# Altium schematic symbol library Soardra.SchLib: 114 symbols
Pins are listed as number, name and electrical type; pins without a type are passive.

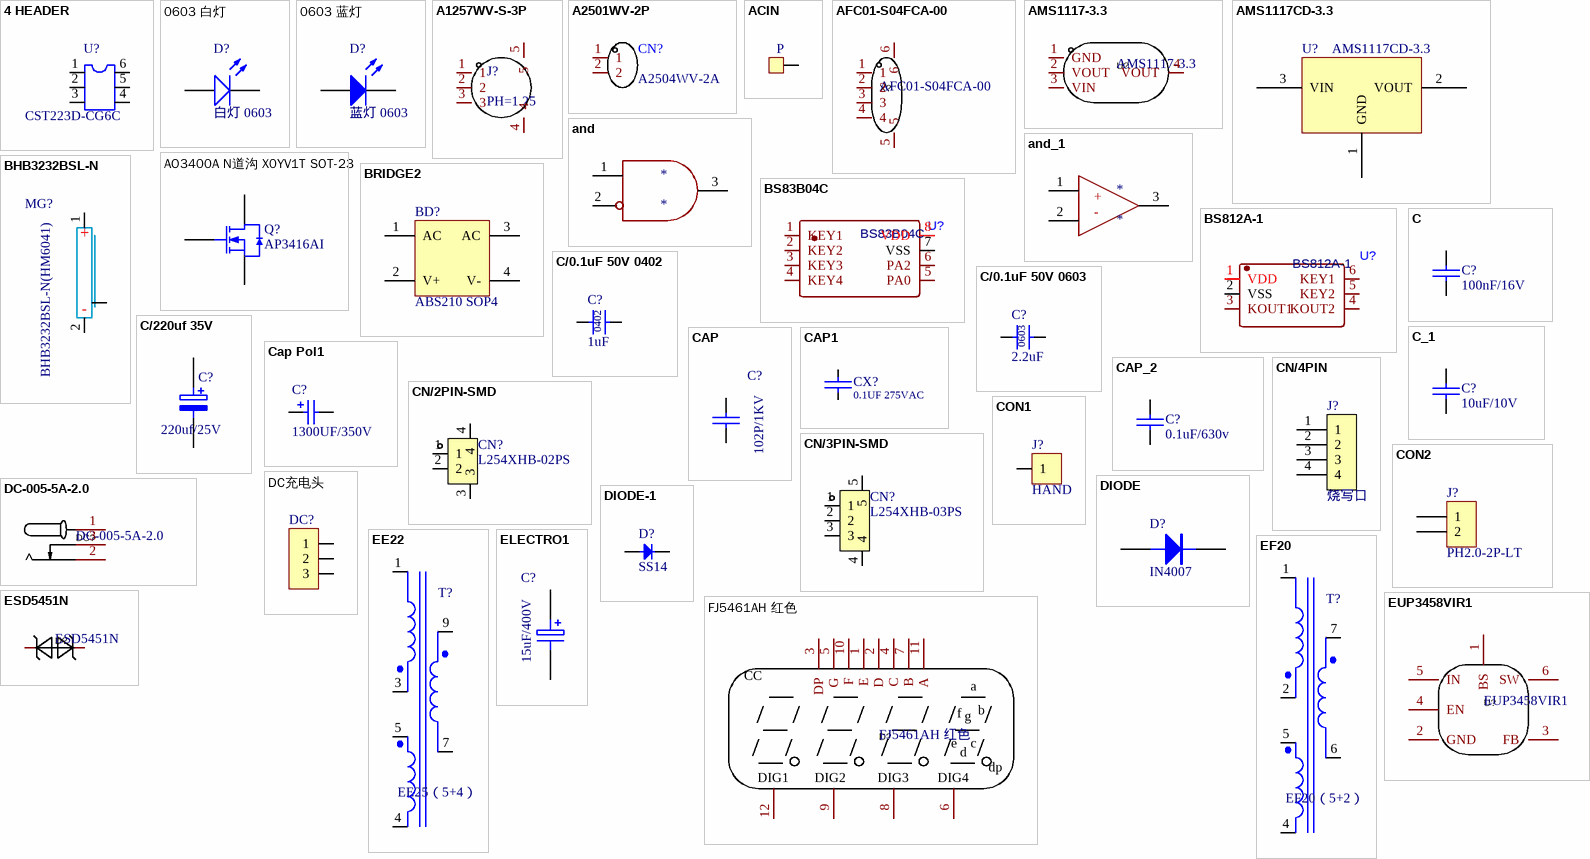
[diagram p0: symbols 4 HEADER to FJ5461AH 红色]

## 4 HEADER
designator U?, comment CST223D-CG6C
4 Pin Header
footprint SOT-23-6
pins: 1, 2, 3, 4, 5, 6

## 0603 白灯
designator D?, comment 白灯 0603
发光二极管; ComponentLink1Description: 供应商链接; ComponentLink1URL: http://www.szlcsc.com/product/details_2663.html; Package: 0603; Supplier: LC; SuppliersPartNumber: C2290
footprint 0603_LED_S1
pins: A, K

## 0603 蓝灯
designator D?, comment 蓝灯 0603
发光二极管; ComponentLink1Description: 供应商链接; ComponentLink1URL: http://www.szlcsc.com/product/details_73150.html; Package: 0603; Supplier: LC; SuppliersPartNumber: C72041
footprint 0603_LED_S1
pins: A, K

## A1257WV-S-3P
designator J?, comment PH=1.25
参考系列：GH 间距：1.25mm 插针结构：1x3P 排数：1 每排PIN数：3 触头材质：黄铜 镀锡 GH连接器 GH1.25
footprint SMD-3P-1.25
pins: 1, 2, 3, 4, 5

## A2501WV-2P
designator CN?, comment A2504WV-2A
Manufacturer: CJT(长江连接器); Name: A2501WV-2P; Add into BOM: yes; Reference Series: XH; Pitch: 2.5mm; Pins Structure: 1x2P; Number of PINs Per Row: 2; Symbol: A2501WV-2P; Device: A2501WV-2P; LCSC Part Name: XH 2.5mm 1x2P; Supplier Part: C225388; Manufacturer Part: A2501WV-2P; Supplier Footprint: 插件,P=2.5mm; JLCPCB Part Class: Extended Part; Datasheet: https://atta.szlcsc.com/upload/public/pdf/source/20190911/C273207_AE7733CA28D6B2C9AC656CEED013742F.pdf; Supplier: LCSC; Convert to PCB: yes; Number of Rows: 1; Row Spacing: -; Mounting Style: -; Contact Material: 黄铜
footprint CONN-TH_A2501WV-2P
3D model CONN-TH_A2501WV-2P
pins: 1, 2

## ACIN
designator P, comment point  (value not drawn)
pins: 0

## AFC01-S04FCA-00
designator X?
Manufacturer: JS(钜硕电子); Add into BOM: yes; Pitch: 0.5mm; Number of Contacts: 4; Locking Feature: 翻盖式; FFC, FCB Thickness: 0.3mm~0.3mm; Name: AFC01-S04FCA-00; Symbol: AFC01-S04FCA-00; Device: AFC01-S04FCA-00; LCSC Part Name: 0.5mm翻盖4P; Supplier Part: C262653; Manufacturer Part: AFC01-S04FCA-00; Supplier Footprint: SMD,P=0.5mm; JLCPCB Part Class: Extended Part; Supplier: LCSC; Convert to PCB: yes; Mounting Type: 卧贴; Contact Type: 下接; Height Above Board: 2mm; Operating Temperature Range: -
footprint FPC-SMD_AFC01-S04FCA-00
3D model FPC-SMD_AFC01-S04FCA-00
pins: 1, 2, 3, 4, 5, 6

## AMS1117-3.3
designator U?
Manufacturer: AMS; Device: AMS1117-3.3_C6186; Add into BOM: yes; Output Type: 固定; Output Polarity: 正; Number of Outputs: 1; Output Voltage: 3.3V; Dropout Voltage: 1.3V@(800mA); Output Current: 1A; Power Supply Rejection Ratio (PSRR): 72dB@(120Hz); Name: AMS1117-3.3; Symbol: AMS1117-3.3; LCSC Part Name: 正 Vout=3.3V 1A 72dB@(120Hz); Supplier Part: C6186; Manufacturer Part: AMS1117-3.3; Supplier Footprint: SOT-223-3; JLCPCB Part Class: Basic Part; Datasheet: https://atta.szlcsc.com/upload/public/pdf/source/20180727/C6186_7A095716F0823C02F1997A905E26C086.pdf; Supplier: LCSC; Convert to PCB: yes; Maximum Input Voltage: -; Quiescent Current (Ground Current): -; Noise: -; Feature: -; Operating Temperature: -
footprint SOT-223-3_L6.5-W3.4-P2.30-LS7.0-BR
3D model SOT-223-4P_L6.5-W3.5-H1.6-LS7.0-P2.30
pins: 1 GND, 2 VOUT, 3 VIN, 4 VOUT

## AMS1117CD-3.3
designator U?
LDO
footprint AMS1117CD-3.3 (LDO)
pins: 1 GND, 2 VOUT, 3 VIN

## and
designator *
pins: 1 VCC, 2 VCC, 3 VCC

## and_1
designator *
pins: 1 VCC, 2 VCC, 3 VCC
text: +; -

## AO3400A N道沟 X0YV1T SOT-23
designator Q?, comment AP3416AI
MOS(场效应管); ComponentLink1Description: 供应商链接; ComponentLink1URL: http://www.szlcsc.com/product/details_21629.html; Package: SOT-23; Supplier: LC; SuppliersPartNumber: C20917
footprint SOT-23-3L (http://www.aosmd.com/res/packaging_information/SOT-23-3L.pdf)
pins: 1 G, 2 S, 3 D

## BHB3232BSL-N
designator MG?, comment BHB3232BSL-N(HM6041)
(闪光放电灯）
footprint BHB3232BSL-N
pins: 1, 2
text: +; -

## BRIDGE2
designator BD?, comment ABS210 SOP4
Diode Bridge
footprint BRIDGE
footprint MBS-DB (Footprint not found)
pins: 1 AC, 2 V+, 3 AC, 4 V-

## BS83B04C
designator U?
footprint SOP-8 (MOS SOP-8)
pins: 1 KEY1, 2 KEY2, 3 KEY3, 4 KEY4, 5 PA0, 6 PA2, 7 VSS, 8 VDD

## BS812A-1
designator U?
footprint SOT-23-6_L2.9-W1.6-P0.95-LS2.8-BR
pins: 1 VDD, 2 VSS, 3 KOUT1, 4 KOUT2, 5 KEY2, 6 KEY1

## C
designator C?, comment 100nF/16V
贴片电容
footprint C5
footprint C7.5
footprint C10
footprint C12.5
footprint C0603
footprint 0603C
footprint 0402_C
footprint 0402C
pins: 1, 2
2 alternate drawings of the same symbol

## C/0.1uF 50V 0402
designator C?, comment 1uF
footprint 0402C
pins: 1, 2
2 alternate drawings of the same symbol
text: 0402

## C/0.1uF 50V 0603
designator C?, comment 2.2uF
footprint 0603C
pins: 1, 2
2 alternate drawings of the same symbol
text: 0603

## C/220uf 35V
designator C?, comment 220uf/25V
Electrolytic Capacitor
footprint EC8
footprint CAP-SMD-6.3*6.3
pins: 1, 2

## C_1
designator C?, comment 10uF/10V
Capacitor
footprint C5
footprint C7.5
footprint C10
footprint C12.5
footprint C0603
footprint 0603C
footprint 0603_C
pins: 1, 2
2 alternate drawings of the same symbol

## CAP
designator C?, comment 102P/1KV
Capacitor
footprint 1206H (Footprint not found)
footprint 0805H
pins: 1, 2

## CAP1
designator CX?, comment 0.1UF 275VAC
footprint CX-P7.5 (Footprint not found)
pins: 1, 2
2 alternate drawings of the same symbol

## Cap Pol1
designator C?, comment 1300UF/350V
Polarized Capacitor (Radial); Value: 100pF; Published: 8-Jun-2000; LatestRevisionDate: 17-Jul-2002; LatestRevisionNote: Re-released for DXP Platform.; PackageReference: RB7.6-15; Publisher: Altium Limited; PackageDescription: Polarized Capacitor (Radial); 2 Leads
simulation model CAP (Capacitor)
signal-integrity model Cap Pol
footprint CAP-28*60-H
pins: 1, 2
1 alternate drawing of the same symbol

## CAP_2
designator C?, comment 0.1uF/630v
Capacitor
footprint 0603-1
footprint CAP-7.5MM (CBB电容-7.5MM)
footprint 1812C
pins: 1, 2

## CN/2PIN-SMD
designator CN?, comment L254XHB-02PS
footprint CONN-SMD_2P-P2.50_DELON_L254XHB-02PS
pins: 1, 2, 3, 4

## CN/3PIN-SMD
designator CN?, comment L254XHB-03PS
footprint CON3-1.25-SMD
footprint CON3-2.50-SMD
pins: 1, 2, 3, 4, 5

## CN/4PIN
designator J?, comment 烧写口
footprint SIP4-2.54
footprint CON4-2.54
footprint SIP4-1.27
pins: 1, 2, 3, 4
2 alternate drawings of the same symbol

## CON1
designator J?, comment HAND
Connector
footprint JPAD-2MM-Y
pins: 1

## CON2
designator J?, comment PH2.0-2P-LT
Connector
footprint CON2-PH2.0-2PIN
pins: 1, 2

## DC-005-5A-2.0
designator DC?
Manufacturer: XKB Connectivity(中国星坤); Add into BOM: yes; Connector Type: DC电源插座; Inside Contact Diameter: 2mm; Outside Contact Diameter: 6.2mm; Current Rating (Max): 5A; Voltage Rating (Max): 24V; Welding Temperature (Max): 260℃; Name: DC-005-5A-2.0; Symbol: DC-005-5A-2.0; Device: DC-005-5A-2.0; LCSC Part Name: DC电源插座 内径:2mm 外径:6.2mm; Supplier Part: C381116; Manufacturer Part: DC-005-5A-2.0; Supplier Footprint: 插件; JLCPCB Part Class: Extended Part; Datasheet: https://atta.szlcsc.com/upload/public/pdf/source/20211015/707A35F7AB6E89C57AAB641950105BB7.pdf; Supplier: LCSC; Convert to PCB: yes; Contact Material: 黄铜; Operating Temperature Range: -20℃~+70℃
footprint DC-IN-TH_DC-005-5A-2.0
3D model DC-IN-TH_L14.4-W9.0-H11.0
pins: 1, 2, 3

## DC充电头
designator DC?, comment DC005-5.5-2.5MM  (value not drawn)
footprint DC005-5.5-2.5MM
pins: 1, 2, 3

## DIODE
designator D?, comment IN4007
Diode
footprint SMA (Footprint not found)
pins: 1 A, 2 K

## DIODE-1
designator D?, comment SS14
Diode
footprint DO-214AC(SMA)
footprint DO-35
footprint DO-41
footprint DO-214AA(SMB)
footprint SOD-123
pins: 1, 2

## EE22
designator T?, comment EE25（5+4）
Three-winding Transformer
footprint EE22-5+4
pins: 1 Pri+, 3 Pri-, 4 Sec2-, 5 Sec2+, 7 B-, 9 A+

## EF20
designator T?, comment EF20（5+2）
Three-winding Transformer
footprint EF20-5+2 (Footprint not found)
pins: 1 Pri+, 2 Pri-, 4 Sec2-, 5 Sec2+, 6 B-, 7 A+

## ELECTRO1
designator C?, comment 15uF/400V
Electrolytic Capacitor
footprint RB-.5/1.0 (Footprint not found)
pins: 1, 2

## ESD5451N
designator D?
Manufacturer: UMW(广东友台半导体); Add into BOM: yes; Name: ESD5451N; Symbol: ESD5451N; Device: ESD5451N; LCSC Part Name: ESD5451N; Supplier Part: C2987696; Manufacturer Part: ESD5451N; Supplier Footprint: DFN1006(SOD-882); JLCPCB Part Class: Extended Part; Datasheet: https://atta.szlcsc.com/upload/public/pdf/source/20220331/3595E574D5158DE45C86FCFF68A3C338.pdf; Supplier: LCSC; Convert to PCB: yes
footprint DFN1006-2L-BI
3D model DFN1006-2L_L1.0-W0.6-H0.5
pins: 1, 2

## EUP3458VIR1
designator U?
Manufacturer: EUTECH(德信); Add into BOM: yes; Function: 降压型; Name: EUP3458VIR1; Symbol: EUP3458VIR1; Device: EUP3458VIR1; LCSC Part Name: 降压型; Supplier Part: C89300; Manufacturer Part: EUP3458VIR1; Supplier Footprint: SOT-23-6; JLCPCB Part Class: Extended Part; Datasheet: https://atta.szlcsc.com/upload/public/pdf/source/20170620/1497944879969.pdf; Supplier: LCSC; Convert to PCB: yes; Synchronous Rectification: -; Number of Outputs: -; Topology: -; Input Voltage: -; Output Current (Max): -; Switching Frequency: -
footprint SOT-23-6_L2.9-W1.6-P0.95-LS2.8-BL
3D model SOT-23-6_L2.9-W1.6-H1.5-LS2.8-P0.95
pins: 1 BS, 2 GND, 3 FB, 4 EN, 5 IN, 6 SW

## FJ5461AH 红色
designator D?
Manufacturer: 志浩; Symbol: FJ5461AH red; Add into BOM: yes; Number of Characters: 4; Digit/Alpha Size(inch): 0.56; Display Type: 8段; LED Polarity: 共阴; Name: FJ5461AH 红色; Device: FJ5461AH 红色; LCSC Part Name: 4位0.56英寸红色数码管 共阴极; Supplier Part: C54396; Manufacturer Part: FJ5461AH 红色; Supplier Footprint: 插件; JLCPCB Part Class: Extended Part; Datasheet: https://atta.szlcsc.com/upload/public/pdf/source/20151111/1457707576636.pdf; Supplier: LCSC; Convert to PCB: yes; Luminous Color: 红色; Module Size: -; Power Dissipation: -
footprint LED-SEG-TH_FJ5461AH
3D model LED-SEG-TH_12P-L50.2-W19.0-H8.0-P2.54-S15.24
pins: 1 E, 2 D, 3 DP, 4 C, 5 G, 6 DIG4, 7 B, 8 DIG3, 9 DIG2, 10 F, 11 A, 12 DIG1
text: CC; a; f; b; g; e; c; d; dp

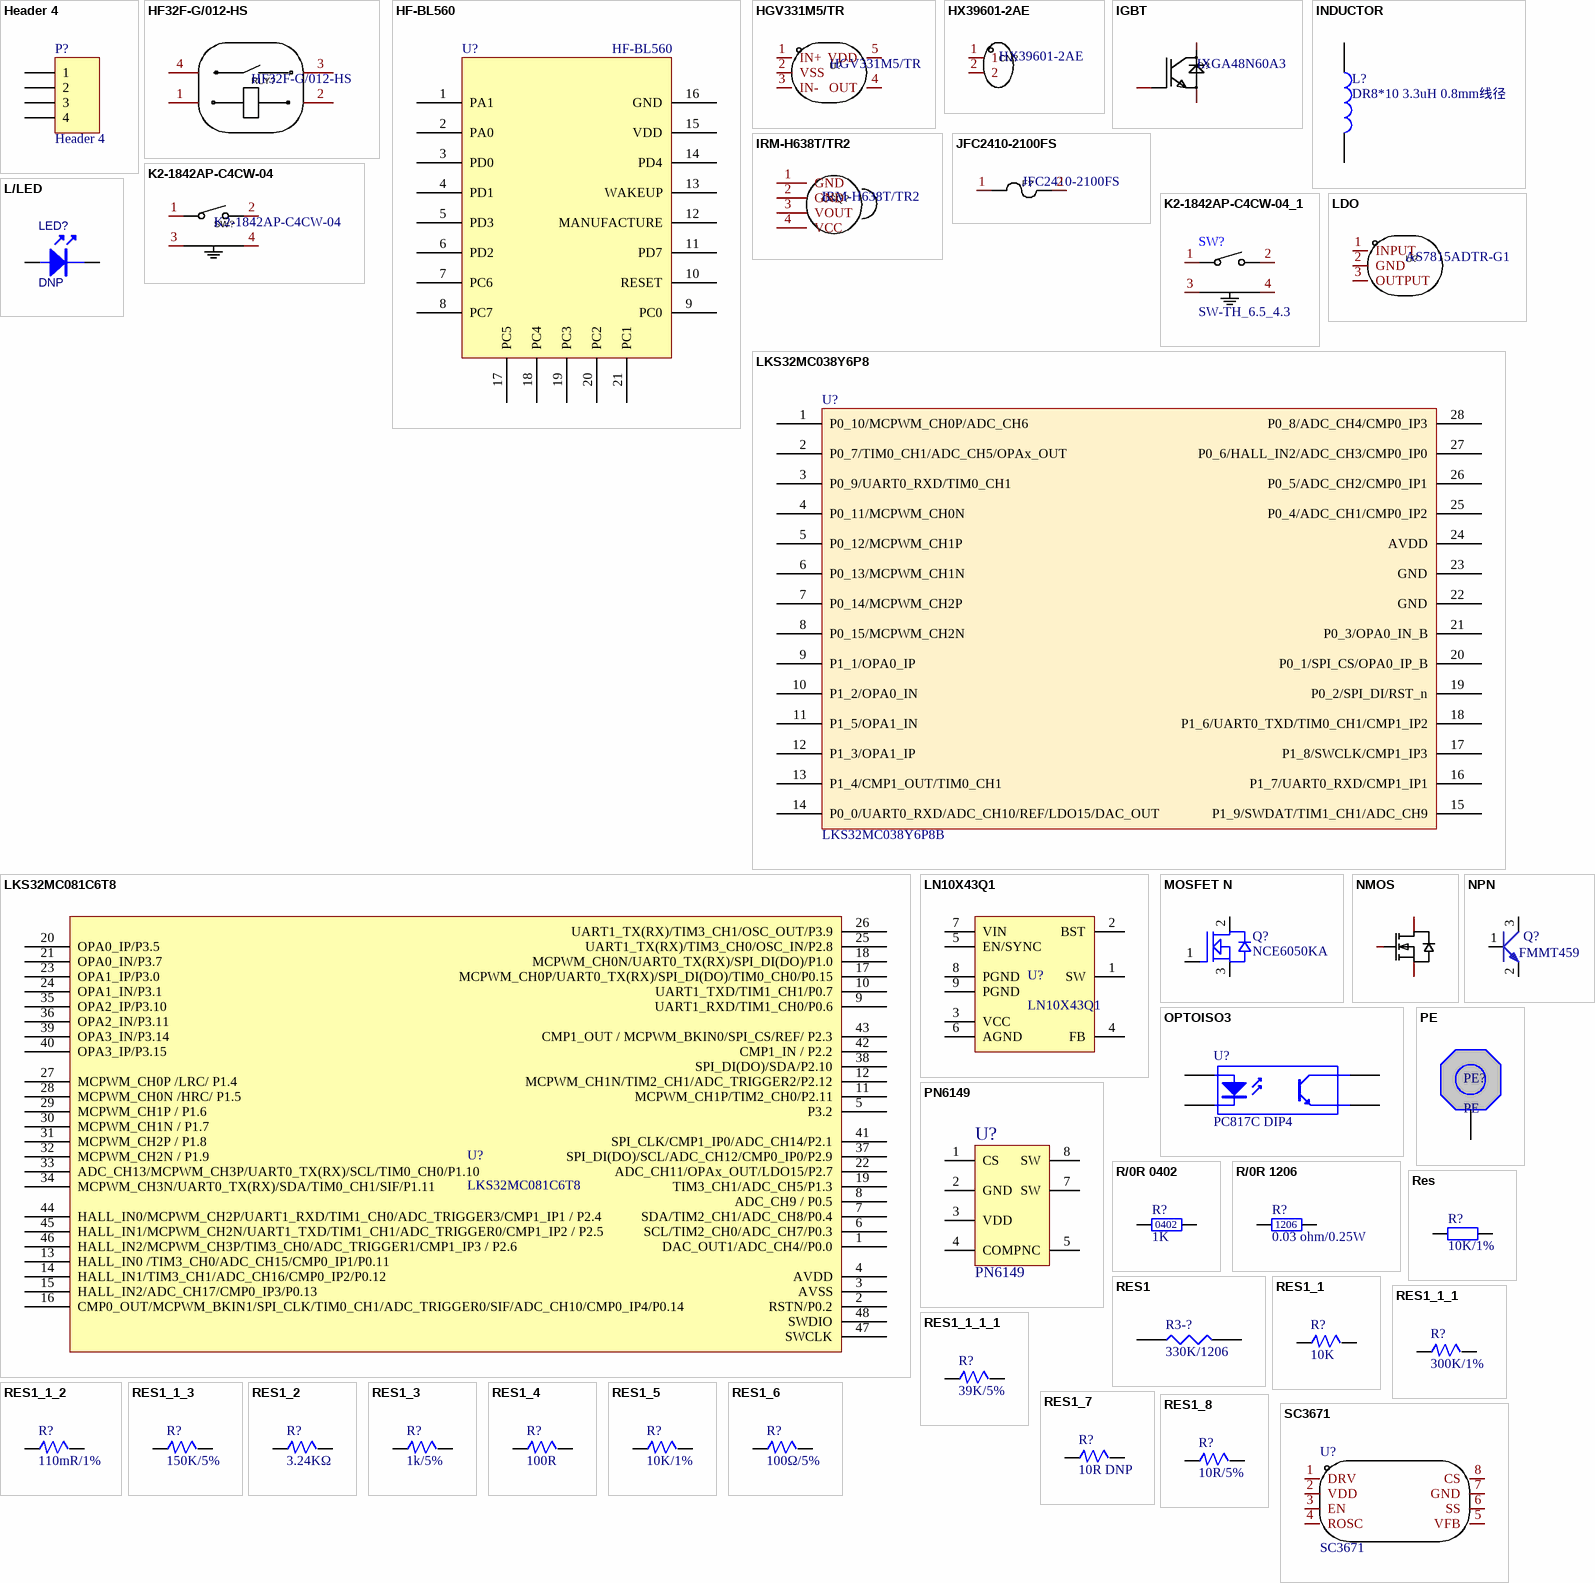
[diagram p1: symbols Header 4 to SC3671]

## Header 4
designator P?
Header, 4-Pin; LatestRevisionDate: 17-Jul-2002; LatestRevisionNote: Re-released for DXP Platform.; Publisher: Altium Limited
footprint HDR1X4 (Connector; Header; 4 Position)
signal-integrity model Connector
footprint CONN-TH_4P-P5.08_DIBO_DB128V-5.08_3mm creepage
pins: 1, 2, 3, 4

## HF32F-G/012-HS
designator RLY?
Manufacturer: HF(宏发); Add into BOM: yes; Coil Voltage: 12V; Coil Type: 非极化-单线圈; Pin Number: 4; Contact Form: 一组常开:1A(单刀单掷-常开); Maximum Switching Current: 10A; Maximum Switching Voltage: 250V@AC；30V@DC; Coil Rated Power: 450mW; Contact Rating: 10A@250VAC；10A@30VDC; Coil Resistance: 320Ω; Operate Time: 8ms; Release Time: 5ms; Contact Resistance: 100mΩ; Name: HF32F-G/012-HS; Symbol: HF32F-G/012-HS; Device: HF32F-G/012-HS; LCSC Part Name: 超小型中功率12V继电器 单刀单掷-常开; Supplier Part: C53562; Manufacturer Part: HF32F-G/012-HS; Supplier Footprint: 插件,10.2x18.4mm; JLCPCB Part Class: Extended Part; Datasheet: https://atta.szlcsc.com/upload/public/pdf/source/20150811/1457707340749.pdf; Supplier: LCSC; Convert to PCB: yes; Contact Material: AgCdO; Operating Temperature: -40℃~+85℃
3D model RELAY-TH_L18.4-W10.2-H15.3-A
footprint RELAY-TH_HF32F-X-HXXXX-XXX - duplicate
pins: 1, 2, 3, 4

## HF-BL560
designator U?
蓝牙模块
footprint ESP32-S
pins: 1 PA1, 2 PA0, 3 PD0, 4 PD1, 5 PD3, 6 PD2, 7 PC6, 8 PC7, 9 PC0, 10 RESET, 11 PD7, 12 MANUFACTURE, 13 WAKEUP, 14 PD4, 15 VDD, 16 GND, 17 PC5, 18 PC4, 19 PC3, 20 PC2, 21 PC1

## HGV331M5/TR
designator U?
Manufacturer: HGSEMI(华冠); Add into BOM: yes; Name: HGV331M5/TR; Symbol: HGV331M5/TR; Device: HGV331M5/TR; LCSC Part Name: HGV331M5/TR; Supplier Part: C5116332; Manufacturer Part: HGV331M5/TR; Supplier Footprint: SOT-23-5; JLCPCB Part Class: Extended Part; Datasheet: https://atta.szlcsc.com/upload/public/pdf/source/20220728/857448FA101889931FC5DCD316A66ACB.pdf; Supplier: LCSC; Convert to PCB: yes
footprint SOT-23-5_L2.9-W1.6-P0.95-LS2.8-TL
3D model SOT-23-5_L2.9-W1.6-P0.95-LS2.9-BL
pins: 1 IN+, 2 VSS, 3 IN-, 4 OUT, 5 VDD

## HX39601-2AE
designator CN?
Manufacturer: HX(红星); Add into BOM: yes; Reference Series: VH; Pitch: 3.96mm; Pins Structure: 1x2P; Number of PINs Per Row: 2; Gender: 公型插针; Current Rating (Max): 7.5A; Name: HX39601-2AE; Symbol: HX39601-2AE; Device: HX39601-2AE; LCSC Part Name: VH 3.96mm 1x2P 直插; Supplier Part: C703300; Manufacturer Part: HX39601-2AE; Supplier Footprint: 插件,P=3.96mm; JLCPCB Part Class: Extended Part; Datasheet: https://atta.szlcsc.com/upload/public/pdf/source/20201029/C702890_54C9B2CA04CF5933C143D8DDD35121E9.pdf; Supplier: LCSC; Convert to PCB: yes; Number of Rows: 1; Row Spacing: -; Mounting Style: 直插; Operating Temperature Range: -25℃~+85℃
footprint CONN-TH_2P-P3.96_HX_HX39601-2AE
3D model CONN-TH_2P-P3.96_HX_HX39601-2AE
pins: 1, 2

## IGBT
designator Q?, comment IXGA48N60A3
Manufacturer: NCE(无锡新洁能); Name: NCE30TD60BD; Add into BOM: yes; Symbol: NCE30TD60BD; Device: NCE30TD60BD; LCSC Part Name: NCE30TD60BD; Supplier Part: C502954; Manufacturer Part: NCE30TD60BD; Supplier Footprint: TO-263-2; JLCPCB Part Class: Extended Part; Datasheet: https://atta.szlcsc.com/upload/public/pdf/source/20200511/C502954_E26470567C4CC3B75594DAB07547394D.pdf; Supplier: LCSC; Convert to PCB: yes
footprint TO-263-2_L9.9-W9.2-P5.08-LS15.3-TL-CW
3D model TO-263-2_L9.9-W9.2-P5.08-LS15.3-TL-CW
pins: 1 G, 2 C, 3 E

## INDUCTOR
designator L?, comment DR8*10 3.3uH 0.8mm线径
pins: 1, 2

## IRM-H638T/TR2
designator CGQ?
Manufacturer: EVERLIGHT(亿光); Add into BOM: yes; Supply Voltage: 2.7V~5.5V; Supply Current: 1.2mA; Half Angle: 45°@垂直；45°@水平; Name: IRM-H638T/TR2; Symbol: IRM-H638T/TR2; Device: IRM-H638T/TR2; LCSC Part Name: 45°@水平 45°@垂直; Supplier Part: C91447; Manufacturer Part: IRM-H638T/TR2; Supplier Footprint: SMD-4P,4x5mm; JLCPCB Part Class: Extended Part; Datasheet: https://atta.szlcsc.com/upload/public/pdf/source/20161219/1482143954829.pdf; Supplier: LCSC; Convert to PCB: yes; Transmission Distance: -; Center Frequency: -; Power Consumption: -; Operating Temperature: -25℃~+85℃
footprint SENSOR-SMD_IRM-H638T-TR2-TL
3D model SENSOR-SMD_L5.0-W4.0-H4.0-LS7.0-P2.54
pins: 1 GND, 2 GND, 3 VOUT, 4 VCC

## JFC2410-2100FS
designator F?
Manufacturer: JDTfuse(集电通); Add into BOM: yes; Type: 贴片式保险丝; Current Rating: 10A; Voltage Rating  (AC): 250V; Breaking Capacity: 50A; Name: JFC2410-2100FS; Symbol: JFC2410-2100FS; Device: JFC2410-2100FS; LCSC Part Name: 10A 250V 快断; Supplier Part: C136374; Manufacturer Part: JFC2410-2100FS; Supplier Footprint: SMD; JLCPCB Part Class: Extended Part; Datasheet: https://atta.szlcsc.com/upload/public/pdf/source/20171023/C136374_15087481045031053508.pdf; Supplier: LCSC; Convert to PCB: yes; Operating Temperature: -55℃~+125℃
footprint F2410
3D model F2410_L6.2-W2.7-H2.7
pins: 1, 2

## K2-1842AP-C4CW-04
designator SW?
Manufacturer: 韩国韩荣; Add into BOM: yes; Contact Current: 50mA; Voltage Rating (DC): 12V; Insulation Resistance: 100MΩ; Mounting Sytle: 卧插; Operating Force: 250gf@±30gf; Mechanical Life: 100000; Switch Length: 12mm; Switch Height: 5mm; Strike Gundam: 是; Name: K2-1842AP-C4CW-04; Symbol: K2-1842AP-C4CW-04; Device: K2-1842AP-C4CW-04; LCSC Part Name: 10.00mmx10.00mmx5防水等级IP68; Supplier Part: C502291; Manufacturer Part: K2-1842AP-C4CW-04; Supplier Footprint: 插件; JLCPCB Part Class: Extended Part; Datasheet: https://atta.szlcsc.com/upload/public/pdf/source/20200423/C502291_2A282BD2D8E1B6527A6DA41CF7F866F0.pdf; Supplier: LCSC; Convert to PCB: yes; Operating Temperature: -25℃~+85℃; Switch Width: 12mm
footprint SW-TH_K2-1842AP-C4CW-04
3D model SW-TH_K2-1842AP-C4CW-04
pins: 1, 2, 3, 4

## K2-1842AP-C4CW-04_1
designator SW?, comment SW-TH_6.5_4.3
Manufacturer: 韩国韩荣; Name: K2-1842AP-C4CW-04; Add into BOM: yes; Contact Current: 50mA; Voltage Rating (DC): 12V; Insulation Resistance: 100MΩ; Mounting Sytle: 卧插; Operating Force: 250gf@±30gf; Mechanical Life: 100000; Switch Length: 12mm; Switch Height: 5mm; Strike Gundam: 是; Symbol: K2-1842AP-C4CW-04; Device: K2-1842AP-C4CW-04; LCSC Part Name: 10.00mmx10.00mmx5防水等级IP68; Supplier Part: C502291; Manufacturer Part: K2-1842AP-C4CW-04; Supplier Footprint: 插件; JLCPCB Part Class: Extended Part; Datasheet: https://atta.szlcsc.com/upload/public/pdf/source/20200423/C502291_2A282BD2D8E1B6527A6DA41CF7F866F0.pdf; Supplier: LCSC; Convert to PCB: yes; Operating Temperature: -25℃~+85℃; Switch Width: 12mm
footprint SW-TH_6.5_4.3
3D model SW-TH_K2-1842AP-C4CW-04
pins: 1, 2, 3, 4

## L/LED
designator LED?, comment DNP
发光管; BOM_Manufacturer: EVERLIGHT; BOM_Manufacturer Part: 19-217/GHC-YR1S2/3T; BOM_Supplier: LCSC; BOM_Supplier Part: C72043; BOM_JLCPCB Part Class: Basic Part; spicePre: L; spiceSymbolName: 19-217/GHC-YR1S2/3T
footprint 0603_LED
footprint 0805_LED
pins: A, K
2 alternate drawings of the same symbol

## LDO
designator U?, comment AS7815ADTR-G1
Manufacturer: DIODES(美台); Add into BOM: yes; Name: AS7815ADTR-G1; Symbol: AS7815ADTR-G1; Device: AS7815ADTR-G1; LCSC Part Name: AS7815ADTR-G1; Supplier Part: C460417; Manufacturer Part: AS7815ADTR-G1; Supplier Footprint: TO-252-2; JLCPCB Part Class: Extended Part; Datasheet: https://atta.szlcsc.com/upload/public/pdf/source/20200113/C127926_5A740A0D78643D1A35F9135FB23672BF.pdf; Supplier: LCSC; Convert to PCB: yes; Output Type: -
footprint TO-252-2_L6.6-W6.1-P4.57-LS9.9-BR-CW
3D model TO-252-2L-3P_L6.6-W6.1-H2.3-LS10.1-P4.6
footprint TO-252(DPAK)
pins: 1 INPUT, 2 GND, 3 OUTPUT

## LKS32MC038Y6P8
designator U?, comment LKS32MC038Y6P8B
CHIP--TSSOP28
footprint TSSOP-28 (9.70x4.40x1.00 e=0.65（蒜米工坊）)
pins: 1 P0_10/MCPWM_CH0P/ADC_CH6, 2 P0_7/TIM0_CH1/ADC_CH5/OPAx_OUT, 3 P0_9/UART0_RXD/TIM0_CH1, 4 P0_11/MCPWM_CH0N, 5 P0_12/MCPWM_CH1P, 6 P0_13/MCPWM_CH1N, 7 P0_14/MCPWM_CH2P, 8 P0_15/MCPWM_CH2N, 9 P1_1/OPA0_IP, 10 P1_2/OPA0_IN, 11 P1_5/OPA1_IN, 12 P1_3/OPA1_IP, 13 P1_4/CMP1_OUT/TIM0_CH1, 14 P0_0/UART0_RXD/ADC_CH10/REF/LDO15/DAC_OUT, 15 P1_9/SWDAT/TIM1_CH1/ADC_CH9, 16 P1_7/UART0_RXD/CMP1_IP1, 17 P1_8/SWCLK/CMP1_IP3, 18 P1_6/UART0_TXD/TIM0_CH1/CMP1_IP2, 19 P0_2/SPI_DI/RST_n, 20 P0_1/SPI_CS/OPA0_IP_B, 21 P0_3/OPA0_IN_B, 22 GND, 23 GND, 24 AVDD, 25 P0_4/ADC_CH1/CMP0_IP2, 26 P0_5/ADC_CH2/CMP0_IP1, 27 P0_6/HALL_IN2/ADC_CH3/CMP0_IP0, 28 P0_8/ADC_CH4/CMP0_IP3

## LKS32MC081C6T8
designator U?
CHIP
footprint LINKO-081
pins: 1 DAC_OUT1/ADC_CH4//P0.0, 2 RSTN/P0.2, 3 AVSS, 4 AVDD, 5 P3.2, 6 SCL/TIM2_CH0/ADC_CH7/P0.3, 7 SDA/TIM2_CH1/ADC_CH8/P0.4, 8 ADC_CH9 / P0.5, 9 UART1_RXD/TIM1_CH0/P0.6, 10 UART1_TXD/TIM1_CH1/P0.7, 11 MCPWM_CH1P/TIM2_CH0/P2.11, 12 MCPWM_CH1N/TIM2_CH1/ADC_TRIGGER2/P2.12, 13 HALL_IN0 /TIM3_CH0/ADC_CH15/CMP0_IP1/P0.11, 14 HALL_IN1/TIM3_CH1/ADC_CH16/CMP0_IP2/P0.12, 15 HALL_IN2/ADC_CH17/CMP0_IP3/P0.13, 16 CMP0_OUT/MCPWM_BKIN1/SPI_CLK/TIM0_CH1/ADC_TRIGGER0/SIF/ADC_CH10/CMP0_IP4/P0.14, 17 MCPWM_CH0P/UART0_TX(RX)/SPI_DI(DO)/TIM0_CH0/P0.15, 18 MCPWM_CH0N/UART0_TX(RX)/SPI_DI(DO)/P1.0, 19 TIM3_CH1/ADC_CH5/P1.3, 20 OPA0_IP/P3.5, 21 OPA0_IN/P3.7, 22 ADC_CH11/OPAx_OUT/LDO15/P2.7, 23 OPA1_IP/P3.0, 24 OPA1_IN/P3.1, 25 UART1_TX(RX)/TIM3_CH0/OSC_IN/P2.8, 26 UART1_TX(RX)/TIM3_CH1/OSC_OUT/P3.9, 27 MCPWM_CH0P /LRC/ P1.4, 28 MCPWM_CH0N /HRC/ P1.5, 29 MCPWM_CH1P / P1.6, 30 MCPWM_CH1N / P1.7, 31 MCPWM_CH2P / P1.8, 32 MCPWM_CH2N / P1.9, 33 ADC_CH13/MCPWM_CH3P/UART0_TX(RX)/SCL/TIM0_CH0/P1.10, 34 MCPWM_CH3N/UART0_TX(RX)/SDA/TIM0_CH1/SIF/P1.11, 35 OPA2_IP/P3.10, 36 OPA2_IN/P3.11, 37 SPI_DI(DO)/SCL/ADC_CH12/CMP0_IP0/P2.9, 38 SPI_DI(DO)/SDA/P2.10, 39 OPA3_IN/P3.14, 40 OPA3_IP/P3.15, 41 SPI_CLK/CMP1_IP0/ADC_CH14/P2.1, 42 CMP1_IN / P2.2, 43 CMP1_OUT / MCPWM_BKIN0/SPI_CS/REF/ P2.3, 44 HALL_IN0/MCPWM_CH2P/UART1_RXD/TIM1_CH0/ADC_TRIGGER3/CMP1_IP1 / P2.4, 45 HALL_IN1/MCPWM_CH2N/UART1_TXD/TIM1_CH1/ADC_TRIGGER0/CMP1_IP2 / P2.5, 46 HALL_IN2/MCPWM_CH3P/TIM3_CH0/ADC_TRIGGER1/CMP1_IP3 / P2.6, 47 SWCLK, 48 SWDIO

## LN10X43Q1
designator U?
瓴芯
footprint SOP-8 (MOS SOP-8)
pins: 1 SW, 2 BST, 3 VCC, 4 FB, 5 EN/SYNC, 6 AGND, 7 VIN, 8 PGND, 9 PGND

## MOSFET N
designator Q?, comment NCE6050KA
footprint TO-252(DPAK)
pins: 1 G, 2 D, 3 S

## NMOS
designator Q?, comment 5N10-MS  (value not drawn)
Manufacturer: MSKSEMI(美森科); Symbol: 5N10_C5140036; Add into BOM: yes; Type: N沟道; Drain Source Voltage (Vdss): 100V; Continuous Drain Current (Id): 5A; Name: 5N10-MS; Device: 5N10-MS; LCSC Part Name: N沟道 100V 5A; Supplier Part: C5140036; Manufacturer Part: 5N10-MS; Supplier Footprint: SOT-23; JLCPCB Part Class: Extended Part; Datasheet: https://atta.szlcsc.com/upload/public/pdf/source/20221027/E8FFDDC8DC95174CD6FB8E74CDC88308.pdf; Supplier: LCSC; Convert to PCB: yes
footprint SOT-23
3D model SOT-23-3_L2.9-W1.3-P1.90-LS2.4
pins: 1 G, 2 S, 3 D

## NPN
designator Q?, comment FMMT459
NPN Transistor
footprint SOT23 (2301)
footprint SOT23HV
pins: 1 B, 2 E, 3 C

## OPTOISO3
designator U?, comment PC817C DIP4
footprint DIP4
pins: 1 A, 2 K, 3 E, 4 C

## PE
designator PE?
footprint PE1
pins: 1 PE

## PN6149
designator U?
footprint DIP8
pins: 1 CS, 2 GND, 3 VDD, 4 COMP, 5 NC, 7 SW, 8 SW

## R/0R 0402
designator R?, comment 1K
贴片电阻 ?Ω  ±?%
footprint 0402R
pins: 1, 2
text: 0402

## R/0R 1206
designator R?, comment 0.03 ohm/0.25W
贴片电阻 ?Ω  ±?%
footprint 1206R
pins: 1, 2
text: 1206

## Res
designator R?, comment 10K/1%
Resistor; Value: K; Published: 8-Jun-2000; LatestRevisionDate: 17-Jul-2002; LatestRevisionNote: Re-released for DXP Platform.; PackageReference: AXIAL-0.4; Publisher: Altium Limited; PackageDescription: Axial Device, Thru-Hole; 2 Leads; 0.4 in Pin Spacing
footprint 0603R
footprint 0805R
footprint 1206R
footprint 0402R
footprint 1210
footprint 2512
footprint 0402_R
pins: 1, 2

## RES1
designator R3-?, comment 330K/1206
footprint 1206H (Footprint not found)
footprint 0805H
pins: 1, 2

## RES1_1
designator R?, comment 10K
footprint 0603-1
footprint 0805-1
footprint 1206-1
footprint 0805_R
footprint 0805R
pins: 1, 2

## RES1_1_1
designator R?, comment 300K/1%
footprint 0603-1
footprint 0805-1
footprint 1206-1
footprint 1206R
pins: 1, 2

## RES1_1_1_1
designator R?, comment 39K/5%
footprint 0603-1
footprint 0805-1
footprint 2512
pins: 1, 2

## RES1_1_2
designator R?, comment 110mR/1%
footprint 0603-1
footprint 0805-1
footprint 2512
pins: 1, 2

## RES1_1_3
designator R?, comment 150K/5%
footprint 0603-1
footprint 0805-1
footprint 2512
pins: 1, 2

## RES1_2
designator R?, comment 3.24KΩ
footprint 0603-1
footprint 0805-1
footprint 1206-1
footprint 0402_R
footprint 0402R
pins: 1, 2

## RES1_3
designator R?, comment 1k/5%
footprint 0603-1
footprint 0805-1
footprint 1206-1
footprint 0402_R
footprint 0402R
pins: 1, 2

## RES1_4
designator R?, comment 100R
footprint 0603-1
footprint 0805-1
footprint 1206-1
footprint 0402_R
footprint 0402R
pins: 1, 2

## RES1_5
designator R?, comment 10K/1%
footprint 0603-1
footprint 0805-1
footprint 1206-1
footprint 0402_R
footprint 0402R
pins: 1, 2

## RES1_6
designator R?, comment 100Ω/5%
footprint 0603-1
footprint 0805-1
footprint 1206-1
footprint 0402_R
footprint 0402R
pins: 1, 2

## RES1_7
designator R?, comment 10R DNP
footprint 0603-1
footprint 0805-1
footprint 1206R
footprint 0603_R
footprint 0603R
pins: 1, 2

## RES1_8
designator R?, comment 10R/5%
footprint 0603-1
footprint 0805-1
footprint 1206-1
footprint 0603_R
footprint 0603R
pins: 1, 2

## SC3671
designator U?
footprint SOP-8 (MOS SOP-8)
pins: 1 DRV, 2 VDD, 3 EN, 4 ROSC, 5 VFB, 6 SS, 7 GND, 8 CS

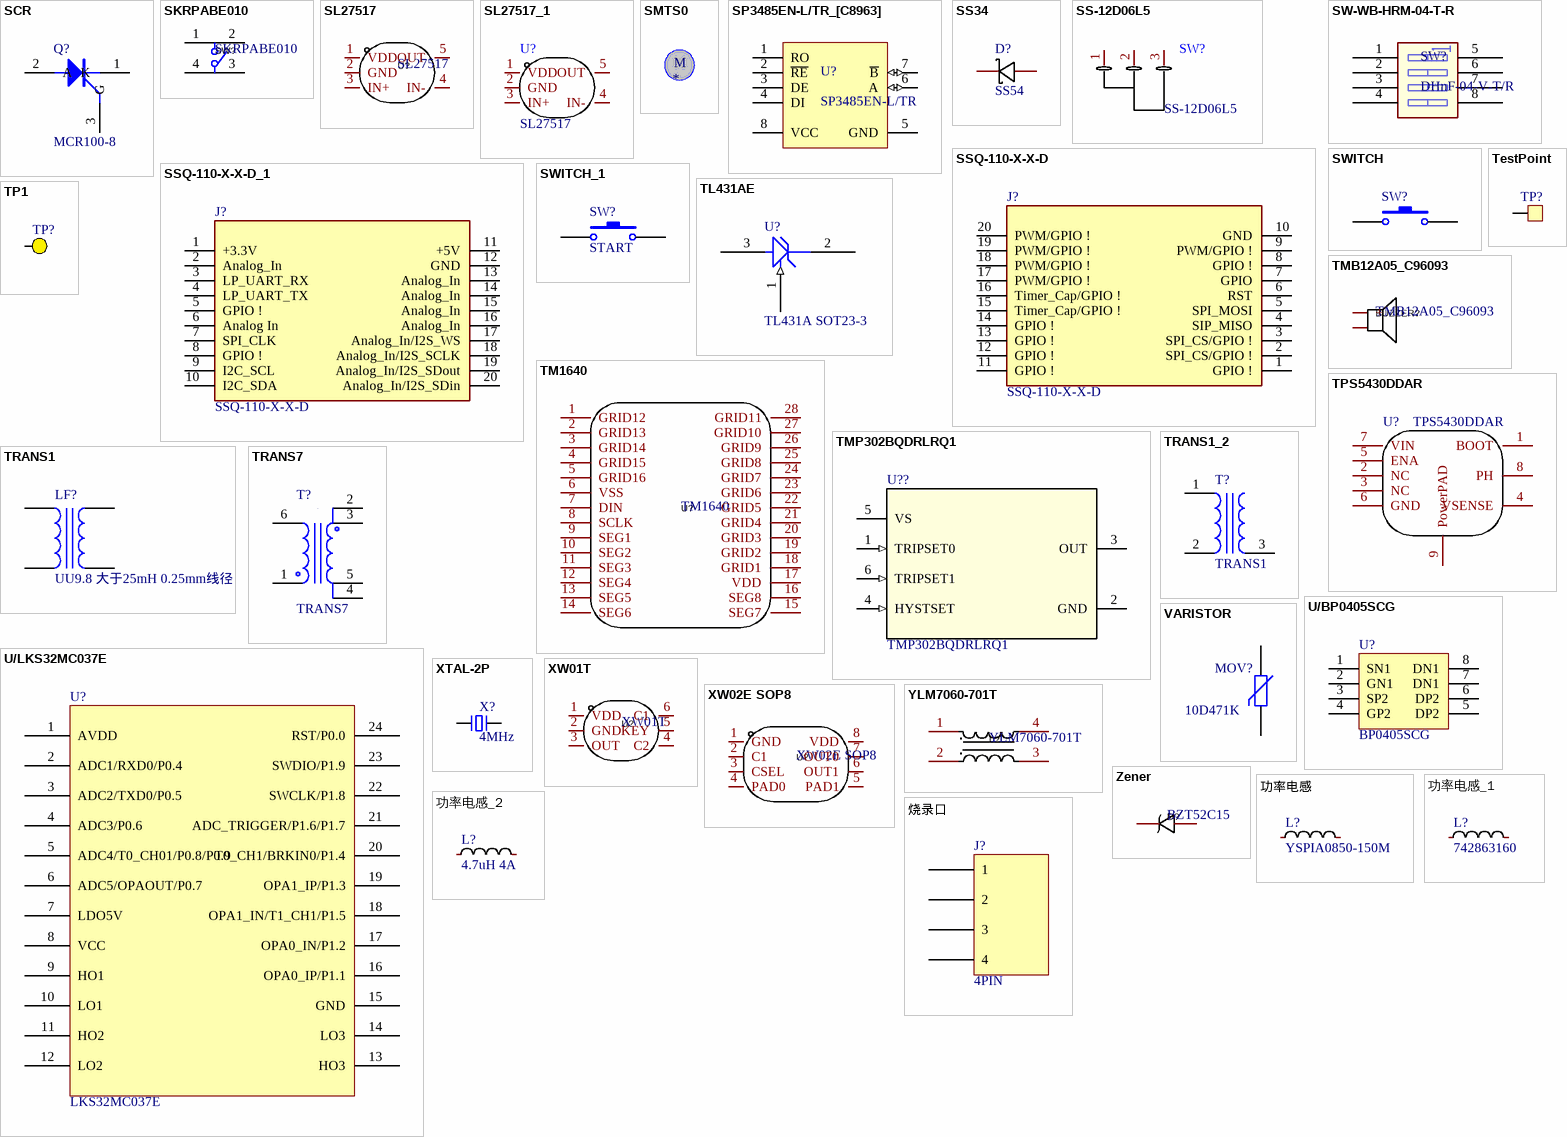
[diagram p2: symbols SCR to 烧录口]

## SCR
designator Q?, comment MCR100-8
footprint SOT-89
footprint SOT-89HV
pins: 1 K, 2 A, 3 G

## SKRPABE010
designator SW?
Manufacturer: ALPSALPINE(阿尔卑斯阿尔派); Add into BOM: yes; Contact Current: 50mA; Voltage Rating (DC): 16V; Circuit: 单刀单掷; Actuator Orientation: 顶部触动; Actuator Style: 椭圆形按钮; Switch Length: 4.2mm; Switch Width: 3.2mm; Switch Height: 2.5mm; Name: SKRPABE010; Symbol: SKRPABE010; Device: SKRPABE010; LCSC Part Name: 3.2*4.2*2.5，1.57N; Supplier Part: C115360; Manufacturer Part: SKRPABE010; Supplier Footprint: SMD; JLCPCB Part Class: Extended Part; Datasheet: https://atta.szlcsc.com/upload/public/pdf/source/20170620/1497944816225.pdf; Supplier: LCSC; Convert to PCB: yes; Illumination Color: -
3D model KEY-SMD_4P-L4.2-W3.2-H2.5-LS4.6-P2.2
footprint SW4-4R2X3R2
pins: 1, 2, 3, 4

## SL27517
designator U?
Manufacturer: Slkor(萨科微); Add into BOM: yes; Name: SL27517; Symbol: SL27517; Device: SL27517; LCSC Part Name: SL27517; Supplier Part: C2681372; Manufacturer Part: SL27517; Supplier Footprint: SOT-23-5; JLCPCB Part Class: Extended Part; Datasheet: https://atta.szlcsc.com/upload/public/pdf/source/20210108/C2681372_6E9B01D6410F669DC7D3C6577C70CBF9.pdf; Supplier: LCSC; Convert to PCB: yes
footprint SOT-23-5_L2.9-W1.6-P0.95-LS2.8-TL
3D model SOT-23-5_L2.9-W1.6-P0.95-LS2.8-TL
pins: 1 VDD, 2 GND, 3 IN+, 4 IN-, 5 OUT

## SL27517_1
designator U?, comment SL27517
Manufacturer: Slkor(萨科微); Add into BOM: yes; Name: SL27517; Symbol: SL27517; Device: SL27517; LCSC Part Name: SL27517; Supplier Part: C2681372; Manufacturer Part: SL27517; Supplier Footprint: SOT-23-5; JLCPCB Part Class: Extended Part; Datasheet: https://atta.szlcsc.com/upload/public/pdf/source/20210108/C2681372_6E9B01D6410F669DC7D3C6577C70CBF9.pdf; Supplier: LCSC; Convert to PCB: yes
footprint SOT-23-5_L2.9-W1.6-P0.95-LS2.8-TL
3D model SOT-23-5_L2.9-W1.6-P0.95-LS2.8-TL
pins: 1 VDD, 2 GND, 3 IN+, 4 IN-, 5 OUT

## SMTS0
designator ?
footprint SMTS0_20
text: M

## SP3485EN-L/TR_[C8963]
designator U?, comment SP3485EN-L/TR
RS-485/RS-422
footprint SOIC-8_150mil
pins: 1 RO, 2 ~{RE}, 3 DE, 4 DI, 5 GND (power), 6 A (io), 7 ~{B} (io), 8 VCC (power)

## SS34
designator D?, comment SS54
二极管配置：独立式 直流反向耐压(Vr)：40V 平均整流电流(Io)：3A 正向压降(Vf)：550mV@3A 40V,3A,VF=0.55V 3A
footprint SS34 (肖特基二极管)
footprint DO-214AB(SMC) (Footprint not found)
pins: 1 K, 2 A

## SS-12D06L5
designator SW?
Manufacturer: XKB Connectivity(中国星坤); Add into BOM: yes; Current Rating (DC): 3A; Voltage Rating (DC): 250V; Circuit: 单刀双掷; Mechanical Life: 10000; Actuator Color: 黑色; Actuator Style: 矩形柱状; Pin Style: PC引脚; Switch Length: 12.95mm; Switch Width: 6.6mm; Switch Height: 6.3mm; Name: SS-12D06L5; Symbol: SS-12D06L5; Device: SS-12D06L5; LCSC Part Name: 拨动开关  W12.7xD6.6xH6.3 柄高5MM 大电流拨动开关不带固定柱; Supplier Part: C319015; Manufacturer Part: SS-12D06L5; Supplier Footprint: 插件; JLCPCB Part Class: Extended Part; Datasheet: https://atta.szlcsc.com/upload/public/pdf/source/20211009/0D67854FD60FB1F6FE75130AD47C052C.pdf; Supplier: LCSC; Convert to PCB: yes; Current Rating (AC): 3A; Voltage Rating (AC): 250V; Mounting Style: 卧插; Operating Temperature: -40℃~+85℃
footprint SW-TH_3P-P4.70_L11.4-W12.7
3D model SW-TH_3P-P4.70_L11.1-W12.7
pins: 1, 2, 3

## SSQ-110-X-X-D
designator J?
SSQ - Samtec 2.54mm Square Tail Dual Row Socket Strip 8.5mm Profile - Fast Stock; MP: SSQ-110-23-G-D; SnapEDA_Link: https://www.snapeda.com/parts/SSQ-110-23-G-D/Samtec/view-part/?ref=snap; Package: None; Value: *; MF: Samtec; Check_prices: https://www.snapeda.com/parts/SSQ-110-23-G-D/Samtec/view-part/?ref=eda
footprint CONN_2X10_SSQ_SAI
pins: 1 GPIO !, 2 SPI_CS/GPIO !, 3 SPI_CS/GPIO !, 4 SIP_MISO, 5 SPI_MOSI, 6 RST, 7 GPIO, 8 GPIO !, 9 PWM/GPIO !, 10 GND, 11 GPIO !, 12 GPIO !, 13 GPIO !, 14 GPIO !, 15 Timer_Cap/GPIO !, 16 Timer_Cap/GPIO !, 17 PWM/GPIO !, 18 PWM/GPIO !, 19 PWM/GPIO !, 20 PWM/GPIO !

## SSQ-110-X-X-D_1
designator J?, comment SSQ-110-X-X-D
SSQ - Samtec 2.54mm Square Tail Dual Row Socket Strip 8.5mm Profile - Fast Stock; MP: SSQ-110-23-G-D; SnapEDA_Link: https://www.snapeda.com/parts/SSQ-110-23-G-D/Samtec/view-part/?ref=snap; Package: None; Value: *; MF: Samtec; Check_prices: https://www.snapeda.com/parts/SSQ-110-23-G-D/Samtec/view-part/?ref=eda
footprint CONN_2X10_SSQ_SAI
pins: 1 +3.3V, 2 Analog_In, 3 LP_UART_RX, 4 LP_UART_TX, 5 GPIO !, 6 Analog In, 7 SPI_CLK, 8 GPIO !, 9 I2C_SCL, 10 I2C_SDA, 11 +5V, 12 GND, 13 Analog_In, 14 Analog_In, 15 Analog_In, 16 Analog_In, 17 Analog_In/I2S_WS, 18 Analog_In/I2S_SCLK, 19 Analog_In/I2S_SDout, 20 Analog_In/I2S_SDin

## SW-WB-HRM-04-T-R
designator SW?, comment DHnF-04-V-T/R
footprint SMD8-6D2X8D2-P127
pins: 1, 2, 3, 4, 5, 6, 7, 8

## SWITCH
designator SW?, comment SMD  (value not drawn)
SMD  6*6*5
footprint SWICH (SMD 6*6*5)
pins: 1, 2

## SWITCH_1
designator SW?, comment START
SMD  6*6*5
footprint SWICH (SMD 6*6*5)
pins: 1, 2

## TestPoint
designator TP?  (value not drawn)
footprint testpoint
pins: 0

## TL431AE
designator U?, comment TL431A SOT23-3
footprint sot-23
pins: 1 VREF (in), 2 C, 3 A

## TM1640
designator U?
Manufacturer: TM(天微); Add into BOM: yes; Name: TM1640; Symbol: TM1640; Device: TM1640; LCSC Part Name: TM1640; Supplier Part: C41327; Manufacturer Part: TM1640; Supplier Footprint: SOIC-28-300mil; JLCPCB Part Class: Basic Part; Datasheet: https://atta.szlcsc.com/upload/public/pdf/source/20210125/C41327_2B9DB4F40466A73C374D651D231B64AE.pdf; Supplier: LCSC; Convert to PCB: yes
footprint SOIC-28_L17.9-W7.5-P1.27-LS10.3-BL
3D model SOIC-28_L17.9-W7.5-H2.7-LS10.3-P1.27
pins: 1 GRID12, 2 GRID13, 3 GRID14, 4 GRID15, 5 GRID16, 6 VSS, 7 DIN, 8 SCLK, 9 SEG1, 10 SEG2, 11 SEG3, 12 SEG4, 13 SEG5, 14 SEG6, 15 SEG7, 16 SEG8, 17 VDD, 18 GRID1, 19 GRID2, 20 GRID3, 21 GRID4, 22 GRID5, 23 GRID6, 24 GRID7, 25 GRID8, 26 GRID9, 27 GRID10, 28 GRID11

## TMB12A05_C96093
designator BUZZER?
Manufacturer: 华能; Name: 2.3kHz; Add into BOM: yes; Oscillator Circuit: 有源(内含驱动线路); Technology Type: 电磁式; Rated Voltage: 5V; Operating Voltage: 4V~8V; Value: 2.3kHz; Sound Pressure Level (SPL): 85dB@5V,10cm; Symbol: TMB12A05; Device: TMB12A05_C96093; LCSC Part Name: TMB12A05; Supplier Part: C96093; Manufacturer Part: TMB12A05; Supplier Footprint: 插件,D=12mm; JLCPCB Part Class: Extended Part; Datasheet: https://atta.szlcsc.com/upload/public/pdf/source/20170522/1495448324811.pdf; Supplier: LCSC; Convert to PCB: yes; Diameter (φD): 12mm; Height: 9.8mm
footprint BUZ-TH_BD12.0-P7.60-D0.6-FD
3D model BUZ-TH_D12.0-H9.5-P7.60
pins: 1 +, 2

## TMP302BQDRLRQ1
designator U??
No Description Available; Mfr_Name: Texas Instruments; PartNumber: TMP302CQDRLRQ1; CompType: IC; Type: DEV; RefDes: RefDes; Copyright: Copyright (C) 2024 Ultra Librarian. All rights reserved.; Manufacturer_Part_Number: TMP302BQDRLRQ1; Application_BuildNumber: *; PackageReference: DRL0006A; MountType: SMT; RoHS: Y; Manufacturer: Texas Instruments
footprint TMP302BQDRLRQ1
pins: 1 TRIPSET0 (in), 2 GND (power), 3 OUT (oc), 4 HYSTSET (in), 5 VS (power), 6 TRIPSET1 (in)

## TP1
designator TP?
footprint TP1.5-SMD (测试点)
footprint TP1
pins: 0

## TPS5430DDAR
designator U?
功能类型：降压型 输出类型：可调 输入电压：5.5V~36V 输出电压：1.221V~32.04V 输出电流(最大值)：3A TPS5430 5.5V 至 36V 输入，3A 降压转换器
footprint TPS5430DDAR (DC-DC)
pins: 1 BOOT, 2 NC, 3 NC, 4 VSENSE, 5 ENA, 6 GND, 7 VIN, 8 PH, 9 PowerPAD

## TRANS1
designator LF?, comment UU9.8 大于25mH 0.25mm线径
footprint UU-9.8 (Footprint not found)
pins: 1, 2, 3, 4

## TRANS1_2
designator T?, comment TRANS1
footprint TRANS4-17.5*8.5*8.5 (点火线圈（8-11kV))
pins: 1, 2, 3

## TRANS7
designator T?
footprint efd21 (贴装EFD21-6+6)
pins: 1, 2, 3, 4, 5, 6

## U/BP0405SCG
designator U?, comment BP0405SCG
BP0405SCG/NCE40NP2815G
footprint DFN-8
footprint SOP-8 (MOS SOP-8)
pins: 1 SN1, 2 GN1, 3 SP2, 4 GP2, 5 DP2, 6 DP2, 7 DN1, 8 DN1
2 alternate drawings of the same symbol

## U/LKS32MC037E
designator U?, comment LKS32MC037E
footprint SSOP-24
pins: 1 AVDD, 2 ADC1/RXD0/P0.4, 3 ADC2/TXD0/P0.5, 4 ADC3/P0.6, 5 ADC4/T0_CH01/P0.8/P0.9, 6 ADC5/OPAOUT/P0.7, 7 LDO5V, 8 VCC, 9 HO1, 10 LO1, 11 HO2, 12 LO2, 13 HO3, 14 LO3, 15 GND, 16 OPA0_IP/P1.1, 17 OPA0_IN/P1.2, 18 OPA1_IN/T1_CH1/P1.5, 19 OPA1_IP/P1.3, 20 T0_CH1/BRKIN0/P1.4, 21 ADC_TRIGGER/P1.6/P1.7, 22 SWCLK/P1.8, 23 SWDIO/P1.9, 24 RST/P0.0
2 alternate drawings of the same symbol

## VARISTOR
designator MOV?, comment 10D471K
footprint RAD-0.3 (Footprint not found)
pins: 1, 2

## XTAL-2P
designator X?, comment 4MHz
2脚无源脚晶振
footprint OSC 5032-2P
pins: 1, 2

## XW01T
designator U?
Manufacturer: Sam&wing(芯网); Add into BOM: yes; Name: XW01T; Symbol: XW01T; Device: XW01T; LCSC Part Name: 触摸芯片; Supplier Part: C3202447; Manufacturer Part: XW01T; Supplier Footprint: SOT-23-6; JLCPCB Part Class: Extended Part; Datasheet: https://atta.szlcsc.com/upload/public/pdf/source/20220629/A86F1B5F465C7BCCA358F364EEA60EFD.pdf; Supplier: LCSC; Convert to PCB: yes
footprint SOT-23-6_L2.9-W1.6-P0.95-LS2.8-BR
3D model SOT-23-6_L2.9-W1.6-H1.5-LS2.8-P0.95
pins: 1 VDD, 2 GND, 3 OUT, 4 C2, 5 KEY, 6 C1

## XW02E SOP8
designator U?
Manufacturer: Sam&wing(芯网); Add into BOM: yes; Name: XW02E SOP8; Symbol: XW02E SOP8; Device: XW02E SOP8; LCSC Part Name: 触摸芯片; Supplier Part: C5156897; Manufacturer Part: XW02E SOP8; Supplier Footprint: SOP-8; JLCPCB Part Class: Extended Part; Datasheet: https://atta.szlcsc.com/upload/public/pdf/source/20221018/6033144A9FF62F478D7EFEAD640D9693.pdf; Supplier: LCSC; Convert to PCB: yes
footprint SOP-8_L4.9-W3.9-P1.27-LS6.0-BL
3D model SOP-8_L4.9-W3.9-P1.27-LS6.0-BL-1
pins: 1 GND, 2 C1, 3 CSEL, 4 PAD0, 5 PAD1, 6 OUT1, 7 OUT0, 8 VDD

## YLM7060-701T
designator L?
Manufacturer: YJYCOIN(益嘉源); Add into BOM: yes; Number of Lines: 2; Impedance @ Frequency: 700Ω@100MHz; Current Rating: 4A; DC Resistance (DCR): 15mΩ; Voltage Rating - DC: 125V; Name: YLM7060-701T; Symbol: YLM7060-701T; Device: YLM7060-701T; LCSC Part Name: YLM7060-701T; Supplier Part: C917651; Manufacturer Part: YLM7060-701T; Supplier Footprint: SMD,7x6x3.8mm; JLCPCB Part Class: Extended Part; Datasheet: https://atta.szlcsc.com/upload/public/pdf/source/20201116/C917647_F9E188B65DA619ED6989990DB3F2DB18.pdf; Supplier: LCSC; Convert to PCB: yes; Operating Temperature: -40℃~+125℃
footprint FILTER-SMD_4P-L7.0-W6.0-TL_YLM7060
3D model FILTER-SMD_4P-L7.0-W6.0-TL_YLM7060
pins: 1, 2, 3, 4

## Zener
designator D?, comment BZT52C15
Manufacturer: GOODWORK(固得沃克); Name: BZT52C12; Symbol: BZT52C12_C2932744; Add into BOM: yes; Zener Voltage (Nom): 12V; Zener Voltage (Range): 11.4V~12.7V; Power Dissipation: 500mW; Reverse Leakage Current (Ir): 100nA@8V; Zener Impedance (Zzt): 25Ω; Device: BZT52C12_C2932744; LCSC Part Name: BZT52C12; Supplier Part: C2932744; Manufacturer Part: BZT52C12; Supplier Footprint: SOD-123; JLCPCB Part Class: Extended Part; Datasheet: https://atta.szlcsc.com/upload/public/pdf/source/20211220/9AF03BC082D29A49F9DDDBE46CDCF57D.pdf; Supplier: LCSC; Convert to PCB: yes; Diode Configuration: -; Tolerance: -
footprint SOD-123
3D model SOD-123_L2.7-W1.6-LS3.7-RD-2
pins: 1 A, 2 K

## 功率电感
designator L?, comment YSPIA0850-150M
电感值：15uH 精度：±20% 额定电流：3A 饱和电流(Isat)：5A
footprint 15UH (SMD)
footprint IND-SMD_L7.8-W7.2_GPSR0850
pins: 1, 2

## 功率电感_1
designator L?, comment 742863160
footprint 0603-1
footprint 0603_R
footprint 0603R
pins: 1, 2

## 功率电感_2
designator L?, comment 4.7uH 4A
电感值：15uH 精度：±20% 额定电流：3A 饱和电流(Isat)：5A
footprint 15UH (SMD)
pins: 1, 2

## 烧录口
designator J?, comment 4PIN
footprint 烧录口
pins: 1, 2, 3, 4